# EAGLE library part GHI-IC_TXS0108ERGYR (library BeagleBone_Blue)
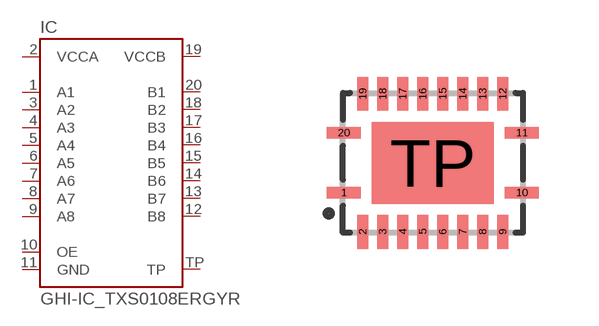
[diagram p9: symbol with the pads of GHI-IC_R-PVQFN-N20(TI); footprint GHI-IC_R-PVQFN-N20(TI)]

Designator prefix IC

## GHI-IC_TXS0108ERGYR  [GHI-IC_R-PVQFN-N20(TI)]
1  A1
2  VCCA
3  A2
4  A3
5  A4
6  A5
7  A6
8  A7
9  A8
10  OE
11  GND
12  B8
13  B7
14  B6
15  B5
16  B4
17  B3
18  B2
19  VCCB
20  B1
TP  TP

## Footprint GHI-IC_R-PVQFN-N20(TI) (pad centres in mm)
smd 0.85 x 0.28: 1 -2.225,-0.75; 10 2.225,-0.75; 11 2.225,0.75; 20 -2.225,0.75
smd 0.28 x 0.85: 2 -1.75,-1.725; 3 -1.25,-1.725; 4 -0.75,-1.725; 5 -0.25,-1.725; 6 0.25,-1.725; 7 0.75,-1.725; 8 1.25,-1.725; 9 1.75,-1.725; 12 1.75,1.725; 13 1.25,1.725; 14 0.75,1.725; 15 0.25,1.725; 16 -0.25,1.725; 17 -0.75,1.725; 18 -1.25,1.725; 19 -1.75,1.725
smd 3.05 x 2.05: TP 0,0